# Altium footprint library V.PcbLib: 3 footprints
Each footprint in its own frame and in the unit in brackets; x right, y up, seen from the top. Pads: shape width x height; smd on the part's side, far side on the other; paste and mask are expansions set on the pad; w line width, h text height; cw(c..) or ccw(c..) is an arc to the next point about the centre after c.
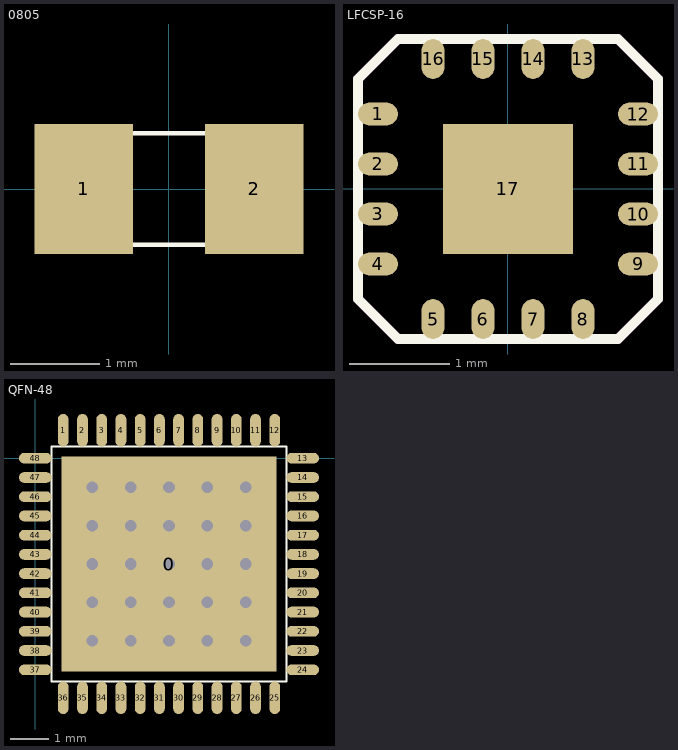
[diagram p0: the footprints below, top view; thin cyan lines are the x and y axes]

## 0805 [mm]
pads (2):
  rect 1.1x1.45 smd: 1(-0.95,0) 2(0.95,0)
Top Overlay:
  lines w0.05: -1,-0.625 1,-0.625 1,0.625 -1,0.625 -1,-0.625
3D body: height 0.5, standoff 0, extent -0.999,-0.624 1,0.625

## LFCSP-16 [mm] "ADA4932-1,"
pads (17):
  oval 0.4x0.23 smd mask+0.07: 1(-1.3,0.75) 2(-1.3,0.25) 3(-1.3,-0.25) 4(-1.3,-0.75) 9(1.3,-0.75) 10(1.3,-0.25) 11(1.3,0.25) 12(1.3,0.75)
  oval 0.23x0.4 smd mask+0.07: 5(-0.75,-1.3) 6(-0.25,-1.3) 7(0.25,-1.3) 8(0.75,-1.3) 13(0.75,1.3) 14(0.25,1.3) 15(-0.25,1.3) 16(-0.75,1.3)
  rect 1.3x1.3 smd: 17(0,0)
Top Overlay:
  lines w0.1: -1.5,-1.1 -1.1,-1.5 1.1,-1.5 1.5,-1.1 1.5,1.1 1.1,1.5 -1.1,1.5 -1.5,1.1 -1.5,-1.1
Mechanical 13:
  lines w0.1: -1.5,-1.1 -1.5,1.1 -1.1,1.5 1.1,1.5 ; -1.5,-1.1 -1.5,-1.1 ; -1.5,-1.1 -1.1,-1.5 1.1,-1.5 1.5,-1.1 1.5,1.1 1.1,1.5 ; 1.1,1.5 1.1,1.5

## QFN-48 [mm] "ADS61B49"
pads (49):
  rect 5.6x5.6 smd: 0(3.475,-2.75)
  oval 0.28x0.85 smd mask+0.07: 1(0.725,0.725) 2(1.225,0.725) 3(1.725,0.725) 4(2.225,0.725) 5(2.725,0.725) 6(3.225,0.725) 7(3.725,0.725) 8(4.225,0.725) 9(4.725,0.725) 10(5.225,0.725) 11(5.725,0.725) 12(6.225,0.725) 25(6.225,-6.225) 26(5.725,-6.225) 27(5.225,-6.225) 28(4.725,-6.225) 29(4.225,-6.225) 30(3.725,-6.225) 31(3.225,-6.225) 32(2.725,-6.225) 33(2.225,-6.225) 34(1.725,-6.225) 35(1.225,-6.225) 36(0.725,-6.225)
  oval 0.85x0.28 smd mask+0.07: 13(6.95,0) 14(6.95,-0.5) 15(6.95,-1) 16(6.95,-1.5) 17(6.95,-2) 18(6.95,-2.5) 19(6.95,-3) 20(6.95,-3.5) 21(6.95,-4) 22(6.95,-4.5) 23(6.95,-5) 24(6.95,-5.5) 37(0,-5.5) 38(0,-5) 39(0,-4.5) 40(0,-4) 41(0,-3.5) 42(0,-3) 43(0,-2.5) 44(0,-2) 45(0,-1.5) 46(0,-1) 47(0,-0.5) 48(0,0)
via 3.475,-2.75 diameter 0.7 hole 0.3
via 4.475,-2.75 diameter 0.7 hole 0.3
via 5.475,-2.75 diameter 0.7 hole 0.3
via 2.475,-2.75 diameter 0.7 hole 0.3
via 1.475,-2.75 diameter 0.7 hole 0.3
via 1.475,-1.75 diameter 0.7 hole 0.3
via 2.475,-1.75 diameter 0.7 hole 0.3
via 5.475,-1.75 diameter 0.7 hole 0.3
via 4.475,-1.75 diameter 0.7 hole 0.3
via 3.475,-1.75 diameter 0.7 hole 0.3
via 1.475,-0.75 diameter 0.7 hole 0.3
via 2.475,-0.75 diameter 0.7 hole 0.3
via 5.475,-0.75 diameter 0.7 hole 0.3
via 4.475,-0.75 diameter 0.7 hole 0.3
via 3.475,-0.75 diameter 0.7 hole 0.3
via 1.475,-3.75 diameter 0.7 hole 0.3
via 2.475,-3.75 diameter 0.7 hole 0.3
via 5.475,-3.75 diameter 0.7 hole 0.3
via 4.475,-3.75 diameter 0.7 hole 0.3
via 3.475,-3.75 diameter 0.7 hole 0.3
via 1.475,-4.75 diameter 0.7 hole 0.3
via 2.475,-4.75 diameter 0.7 hole 0.3
via 5.475,-4.75 diameter 0.7 hole 0.3
via 4.475,-4.75 diameter 0.7 hole 0.3
via 3.475,-4.75 diameter 0.7 hole 0.3
Top Overlay:
  lines w0.05: 0.425,-5.8 6.525,-5.8 6.525,0.3 0.425,0.3 0.425,-5.8